# Altium schematic symbol library AltiumLibrary.SchLib: 65 symbols (part 1 of 2)
Pins are listed as number, name and electrical type; pins without a type are passive.

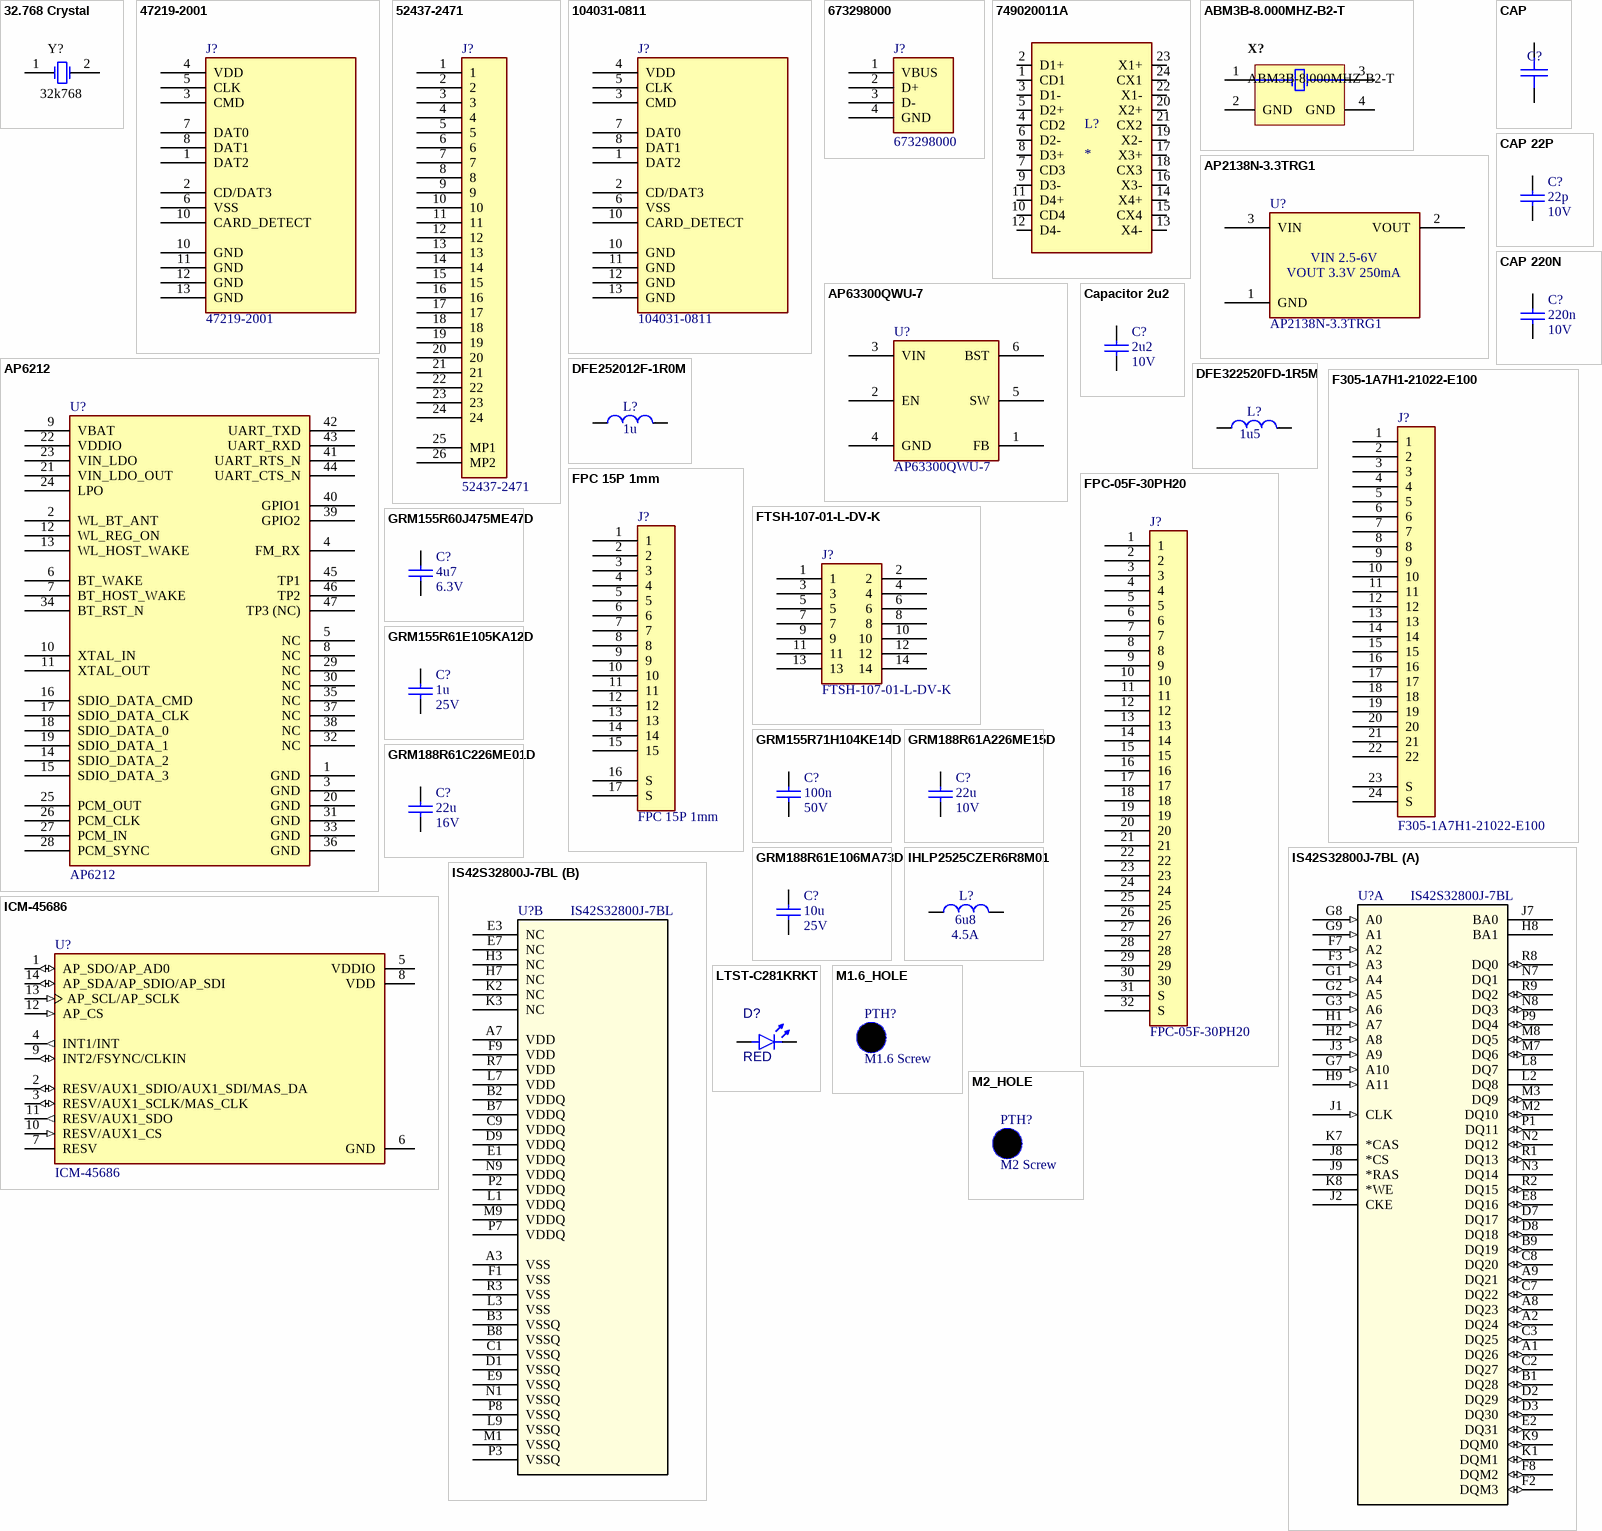
[diagram p0: symbols 32.768 Crystal to M2_HOLE]

## 32.768 Crystal
designator Y?, comment 32k768
pins: 1, 2

## 47219-2001
designator J?
Micro SD
footprint 47219-2001 (MicroSD Hinge Molex)
pins: 1 DAT2, 2 CD/DAT3, 3 CMD, 4 VDD, 5 CLK, 6 VSS, 7 DAT0, 8 DAT1, 10 CARD_DETECT, 10 GND, 11 GND, 12 GND, 13 GND

## 52437-2471
designator J?
footprint 52437-2471 (FPC Connector, 24-Leads, Right Angle, Pitch 0.5 mm, SMT)
pins: 1, 2, 3, 4, 5, 6, 7, 8, 9, 10, 11, 12, 13, 14, 15, 16, 17, 18, 19, 20, 21, 22, 23, 24, 25 MP1, 26 MP2

## 104031-0811
designator J?
Micro SD
footprint 104031-0811 (MOLEX Micro SD)
pins: 1 DAT2, 2 CD/DAT3, 3 CMD, 4 VDD, 5 CLK, 6 VSS, 7 DAT0, 8 DAT1, 10 CARD_DETECT, 10 GND, 11 GND, 12 GND, 13 GND

## 673298000
designator J?
Molex USB 2.0 Type-A Vertical Right Angle
footprint 673298000
pins: 1 VBUS, 2 D+, 3 D-, 4 GND

## 749020011A
designator L?
1000BASE-T LAN transformer, SMD, 24pin, pitch 1.27mm, -40Â°C to +85Â°C, 1.5KVrms isolation, HPLE; MF: Wurth Electronics; MP: 749020011A; SnapEDA_Link: https://www.snapeda.com/parts/749020011A/Wurth+Electronics/view-part/?ref=snap; Package: None; Value: *; Check_prices: https://www.snapeda.com/parts/749020011A/Wurth+Electronics/view-part/?ref=eda
footprint WE-LAN_749020011A
pins: 1 CD1, 2 D1+, 3 D1-, 4 CD2, 5 D2+, 6 D2-, 7 CD3, 8 D3+, 9 D3-, 10 CD4, 11 D4+, 12 D4-, 13 X4-, 14 X4+, 15 CX4, 16 X3-, 17 X3+, 18 CX3, 19 X2-, 20 X2+, 21 CX2, 22 X1-, 23 X1+, 24 CX1

## ABM3B-8.000MHZ-B2-T
designator X?
Ceramic SMD Crystal, 8 MHz, +/- 20 ppm, 18 pF, -20 to 70 degC, 4-Pin SMD, RoHS, Tape and Reel; Manufacturer: Abracon; Resistance: 200Ohm; ESR: 200; Tolerance: 20ppm; Frequency: 8MHz; Load Capacitance: 18pF; Mounting Technology: SM; Case/Package: CSMD; Pins: 4; Datasheet Version: Aug-15; Datasheet URL: http://www.abracon.com/Resonators/abm3b.pdf; Manufacturer URL: http://www.abracon.com/; Package Quantity: 1000; Package Description: 4-Pin Surface Mount Device, Body 5 x 3.2 mm; Package Reference: ABM3B; Min Operating Temperature: -20°C; Max Operating Temperature: 70°C; Packaging: TapeandReel; Frequency Tolerance: 20ppm; RoHS Compliant: True
footprint ABM3B-8.000MHZ-B2-T (SMD, 4-Leads, Body 5x3.2mm)
pins: 1 X1, 2 GND (power), 3 X2, 4 GND (power)

## AP2138N-3.3TRG1
designator U?
LDO 3.3V 250mA; Manufacturer Part Number 1: AP2138N-3.3TRG1
footprint AP2138N-3.3TRG1 (SOT23, 3-Leads, Body 2.9x1.3mm, Pitch 0.95mm)
pins: 1 GND, 2 VOUT, 3 VIN
text: VIN 2.5-6V; VOUT 3.3V 250mA

## AP6212
designator U?
WiFi
pins: 1 GND, 2 WL_BT_ANT, 3 GND, 4 FM_RX, 5 NC, 6 BT_WAKE, 7 BT_HOST_WAKE, 8 NC, 9 VBAT, 10 XTAL_IN, 11 XTAL_OUT, 12 WL_REG_ON, 13 WL_HOST_WAKE, 14 SDIO_DATA_2, 15 SDIO_DATA_3, 16 SDIO_DATA_CMD, 17 SDIO_DATA_CLK, 18 SDIO_DATA_0, 19 SDIO_DATA_1, 20 GND, 21 VIN_LDO_OUT, 22 VDDIO, 23 VIN_LDO, 24 LPO, 25 PCM_OUT, 26 PCM_CLK, 27 PCM_IN, 28 PCM_SYNC, 29 NC, 30 NC, 31 GND, 32 NC, 33 GND, 34 BT_RST_N, 35 NC, 36 GND, 37 NC, 38 NC, 39 GPIO2, 40 GPIO1, 41 UART_RTS_N, 42 UART_TXD, 43 UART_RXD, 44 UART_CTS_N, 45 TP1, 46 TP2, 47 TP3 (NC)

## AP63300QWU-7
designator U?
BUCK 3A; Manufacturer Part Number 1: AP63300QWU-7
footprint AP63300QWU-7
pins: 1 FB, 2 EN, 3 VIN, 4 GND, 5 SW, 6 BST

## CAP
designator C?  (value not drawn)
pins: 1, 2

## CAP 22P
designator C?  value 22p  Voltage: 10V
CAP 22P 6.3V X5R 0402; Manufacturer Part Number 1: GRM155R60J475ME47D; Size: 0402; Dielectric: X5R
footprint GRM155R60J475ME47D (Chip Capacitor, Body 1.0x0.5mm, Height 0.6mm, IPC High Density)
pins: 1, 2

## CAP 220N
designator C?  value 220n  Voltage: 10V
CAP 220N 6.3V X5R 0402; Manufacturer Part Number 1: GRM155R60J475ME47D; Size: 0402; Dielectric: X5R
footprint GRM155R60J475ME47D (Chip Capacitor, Body 1.0x0.5mm, Height 0.6mm, IPC High Density)
pins: 1, 2

## Capacitor 2u2
designator C?  value 2u2  Voltage: 10V
CAP 2.2U 6.3V X5R 0402; Manufacturer Part Number 1: GRM155R60J475ME47D; Size: 0402; Dielectric: X5R
footprint GRM155R60J475ME47D (Chip Capacitor, Body 1.0x0.5mm, Height 0.6mm, IPC High Density)
pins: 1, 2

## DFE252012F-1R0M
designator L?  value 1u
IND 1U 6A 1210
pins: 1, 2

## DFE322520FD-1R5M
designator L?  value 1u5
IND 1.5U 6A 1210
footprint DFE322520FD-1R5M
pins: 1, 2

## F305-1A7H1-21022-E100
designator J?
FPC
footprint F305-1A7H1-21022-E100 (Amphenol FPC 22P 0.5mm)
pins: 1, 2, 3, 4, 5, 6, 7, 8, 9, 10, 11, 12, 13, 14, 15, 16, 17, 18, 19, 20, 21, 22, 23 S, 24 S

## FPC 15P 1mm
designator J?
pins: 1, 2, 3, 4, 5, 6, 7, 8, 9, 10, 11, 12, 13, 14, 15, 16 S, 17 S

## FPC-05F-30PH20
designator J?
pins: 1, 2, 3, 4, 5, 6, 7, 8, 9, 10, 11, 12, 13, 14, 15, 16, 17, 18, 19, 20, 21, 22, 23, 24, 25, 26, 27, 28, 29, 30, 31 S, 32 S

## FTSH-107-01-L-DV-K
designator J?
footprint FTSH-107-01-L-DV-K
pins: 1, 2, 3, 4, 5, 6, 7, 8, 9, 10, 11, 12, 13, 14

## GRM155R60J475ME47D
designator C?  value 4u7  Voltage: 6.3V
CAP 4.7U 6.3V X5R 0402; Manufacturer Part Number 1: GRM155R60J475ME47D; Size: 0402; Dielectric: X5R
footprint GRM155R60J475ME47D (Chip Capacitor, Body 1.0x0.5mm, Height 0.6mm, IPC High Density)
pins: 1, 2

## GRM155R61E105KA12D
designator C?  value 1u  Voltage: 25V
CAP 1U 25V X5R 0402; Manufacturer Part Number 1: GRM155R61E105KA12D; Size: 0402; Dielectric: X5R
footprint GRM155R61E105KA12D (Chip Capacitor, Body 1.0x0.5mm, Height 0.6mm, IPC High Density)
pins: 1, 2

## GRM155R71H104KE14D
designator C?  value 100n  Voltage: 50V
CAP 100N 50V X7R 0402; Manufacturer Part Number 1: GRM155R71H104KE14D; Size: 0402; Dielectric: X7R
footprint GRM155R71H104KE14D (Chip Capacitor, Body 1.0x0.5mm, Height 0.6mm, IPC High Density)
pins: 1, 2

## GRM188R61A226ME15D
designator C?  value 22u  Voltage: 10V
CAP 22U 10V X5R 0603; Manufacturer Part Number 1: GRM188R61A226ME15D; Size: 0603; Dielectric: X5R
footprint GRM188R61A226ME15D (Chip Capacitor, Body 1.6x0.8mm, Height 1.0mm, IPC High Density)
pins: 1, 2

## GRM188R61C226ME01D
designator C?  value 22u  Voltage: 16V
CAP 22U 16V X5R 0603; Manufacturer Part Number 1: GRM188R61C226ME01D; Size: 0603; Dielectric: X5R
footprint GRM188R61C226ME01D (Chip Capacitor, Body 1.6x0.8mm, Height 1.0mm, IPC High Density)
pins: 1, 2

## GRM188R61E106MA73D
designator C?  value 10u  Voltage: 25V
CAP 10U 25V X5R 0603; Size: 0603; Dielectric: X5R
pins: 1, 2

## ICM-45686
designator U?
Accelerometer, Gyroscope, 6 Axis Sensor I2C, I3C, SPI Output; Manufacturer Part Number 1: ICM-45686
footprint ICM-45686
pins: 1 AP_SDO/AP_AD0 (io), 2 RESV/AUX1_SDIO/AUX1_SDI/MAS_DA (io), 3 RESV/AUX1_SCLK/MAS_CLK (io), 4 INT1/INT (out), 5 VDDIO (power), 6 GND (power), 7 RESV, 8 VDD (power), 9 INT2/FSYNC/CLKIN (io), 10 RESV/AUX1_CS (in), 11 RESV/AUX1_SDO (out), 12 AP_CS (in), 13 AP_SCL/AP_SCLK (in), 14 AP_SDA/AP_SDIO/AP_SDI (io)

## IHLP2525CZER6R8M01
designator L?  value 6u8  Current Rating: 4.5A
IND 6.8U 4.5A 60m; Manufacturer Part Number 1: IHLP2525CZER6R8M01
footprint IHLP2525CZER6R8M01
pins: 1, 2

## IS42S32800J-7BL
designator U?
No Description Available; Manufacturer_Name: ISSI; Manufacturer_Part_Number: IS42S32800B-6B; Copyright: Copyright (C) 2026 Ultra Librarian. All rights reserved.; RefDes: RefDes; Type: Type
footprint IS42S32800J-7BL
part A pins: A1 DQ26 (io), A2 DQ24 (io), A8 DQ23 (io), A9 DQ21 (io), B1 DQ28 (io), B9 DQ19 (io), C2 DQ27 (io), C3 DQ25 (io), C7 DQ22 (io), C8 DQ20 (io), D2 DQ29 (io), D3 DQ30 (io), D7 DQ17 (io), D8 DQ18 (io), E2 DQ31 (io), E8 DQ16 (io), F2 DQM3 (io), F3 A3 (in), F7 A2 (in), F8 DQM2 (io), G1 A4 (in), G2 A5 (in), G3 A6 (in), G7 A10 (in), G8 A0 (in), G9 A1 (in), H1 A7 (in), H2 A8 (in), H8 BA1, H9 A11 (in), J1 CLK (in), J2 CKE, J3 A9 (in), J7 BA0, J8 *CS, J9 *RAS, K1 DQM1 (io), K7 *CAS, K8 *WE, K9 DQM0 (io), L2 DQ8, L8 DQ7, M2 DQ10 (io), M3 DQ9 (io), M7 DQ6 (io), M8 DQ5 (io), N2 DQ12 (io), N3 DQ14 (power), N7 DQ1 (power), N8 DQ3 (io), P1 DQ11 (io), P9 DQ4 (io), R1 DQ13 (io), R2 DQ15 (io), R8 DQ0 (io), R9 DQ2 (io)
part B pins: A3 VSS (power), A7 VDD (power), B2 VDDQ (power), B3 VSSQ (power), B7 VDDQ (power), B8 VSSQ (power), C1 VSSQ (power), C9 VDDQ (power), D1 VSSQ (power), D9 VDDQ (power), E1 VDDQ (power), E3 NC, E7 NC, E9 VSSQ (power), F1 VSS (power), F9 VDD (power), H3 NC, H7 NC, K2 NC, K3 NC, L1 VDDQ, L3 VSS, L7 VDD, L9 VSSQ, M1 VSSQ (power), M9 VDDQ (power), N1 VSSQ (power), N9 VDDQ (power), P2 VDDQ (power), P3 VSSQ (power), P7 VDDQ (power), P8 VSSQ (power), R3 VSS (power), R7 VDD (power)

## LTST-C281KRKT
designator D?, comment RED
LED RED; Manufacturer Part Number 1: LTST-C281KRKT; Size: 0402; Colour: RED
footprint LTST-C281KRKT (SMD, 2-Leads, Body 1x0.5mm)
pins: 1 K, 2 A

## M1.6_HOLE
designator PTH?, comment M1.6 Screw
footprint m1.6_hole

## M2_HOLE
designator PTH?, comment M2 Screw
footprint M2_HOLE

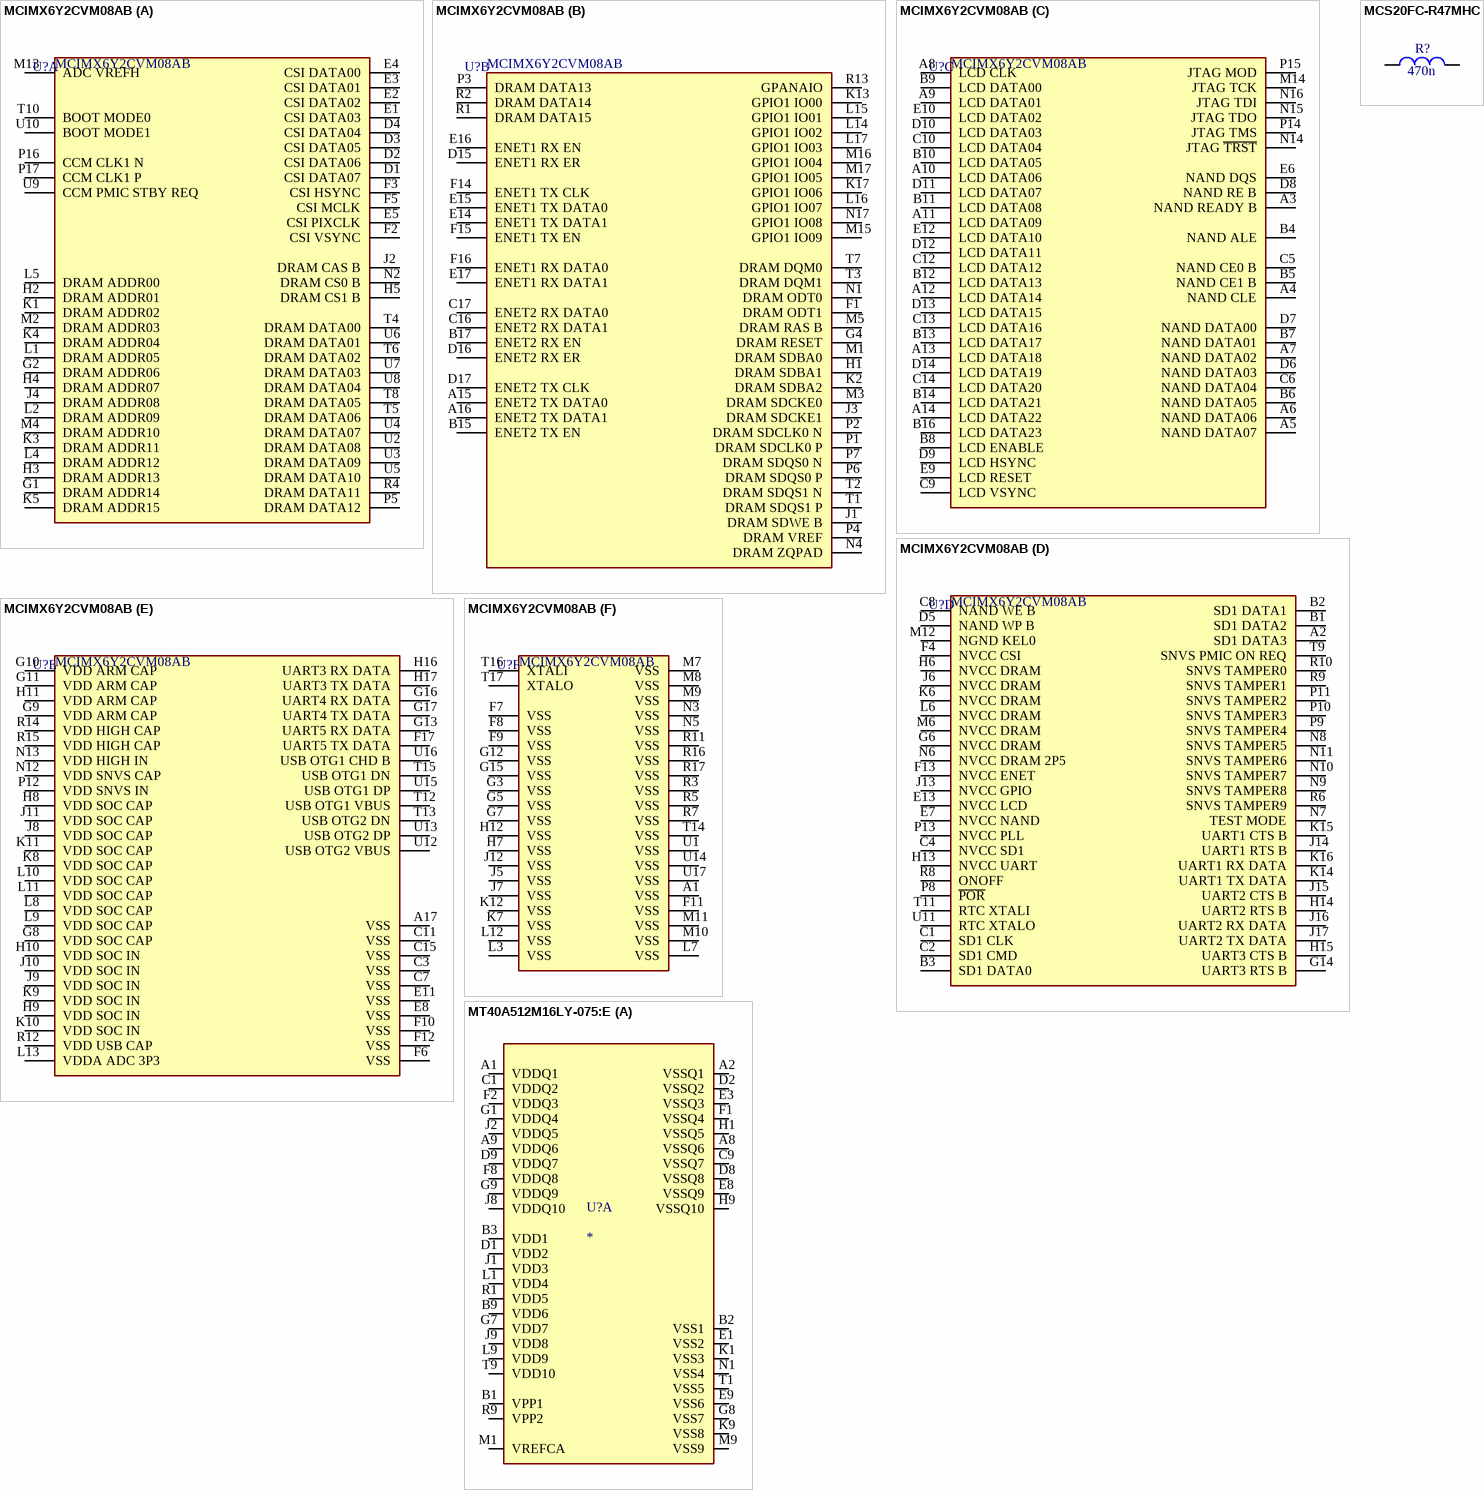
[diagram p1: symbols MCIMX6Y2CVM08AB to MT40A512M16LY-075:E]

## MCIMX6Y2CVM08AB
designator U?
I.MX6ULL ROM PERF ENHAN; Manufacturer: NXP Semiconductors; Min Supply Voltage: 0.925V; Number Of Timers/Counters: 4; Number Of Usb Channels: 2; Max Junction Temp: +105°C; Number Of Adc Channels: 10; Ram Size: 128KBytes; Max Supply Voltage: 5.5V; Number Of Uart Channels: 8; Core Architecture: ARM Cortex-A7; Standoff Height: 0.2mm; Number Of Cores: 1; Interface: I2C,SPI,UART,CAN,USB,Ethernet,Other; Data Bus Width: 32bits; Frequency: 792MHz; ComponentLink2URL: https://www.nxp.com/docs/en/data-sheet/IMX6ULLCEC.pdf; Height: 1.32mm; Octopart: https://octopart.com/mcimx6y2cvm08ab-nxp+semiconductors-86726751; Number Of Spi Channels: 4; Manufacturer Part Number: MCIMX6Y2CVM08AB; Device Class L2: Embedded Processors and Controllers; Number Of I2C Channels: 4; Temperature: -40°C to +105°C; Digikey Description: I.MX6ULL ROM PERF ENHAN; ComponentLink2Description: Datasheet; Device Class L1: Integrated Circuits (ICs); Lead Free: Yes; Footprint Url: https://www.nxp.com/docs/en/package-information/98ASA00855D.pdf; Category: IC; Mouser Description: I.mx 32-Bit Mpu, Arm Cortex-A7 Core, 800Mhz, 289Bga Rohs Compliant: Yes; Temperature Range Low: -40°C; Automotive: No; Number Of Ethernet Channels: 2; Temperature Range High: +105°C; Number Of Pwm Channels: 8; Number Of A/D Converters: 2; RoHS: TRUE; Package: SOT1534-2; Device Class L3: Microprocessors
footprint MCIMX6Y2CVM08AB
part A pins: D1 CSI DATA07, D2 CSI DATA06, D3 CSI DATA05, D4 CSI DATA04, E1 CSI DATA03, E2 CSI DATA02, E3 CSI DATA01, E4 CSI DATA00, E5 CSI PIXCLK, F2 CSI VSYNC, F3 CSI HSYNC, F5 CSI MCLK, G1 DRAM ADDR14, G2 DRAM ADDR06, H2 DRAM ADDR01, H3 DRAM ADDR13, H4 DRAM ADDR07, H5 DRAM CS1 B, J2 DRAM CAS B, J4 DRAM ADDR08, K1 DRAM ADDR02, K3 DRAM ADDR11, K4 DRAM ADDR04, K5 DRAM ADDR15, L1 DRAM ADDR05, L2 DRAM ADDR09, L4 DRAM ADDR12, L5 DRAM ADDR00, M2 DRAM ADDR03, M4 DRAM ADDR10, M13 ADC VREFH, N2 DRAM CS0 B, P5 DRAM DATA12, P16 CCM CLK1 N, P17 CCM CLK1 P, R4 DRAM DATA11, T4 DRAM DATA00, T5 DRAM DATA06, T6 DRAM DATA02, T8 DRAM DATA05, T10 BOOT MODE0, U2 DRAM DATA08, U3 DRAM DATA09, U4 DRAM DATA07, U5 DRAM DATA10, U6 DRAM DATA01, U7 DRAM DATA03, U8 DRAM DATA04, U9 CCM PMIC STBY REQ, U10 BOOT MODE1
part B pins: A15 ENET2 TX DATA0, A16 ENET2 TX DATA1, B15 ENET2 TX EN, B17 ENET2 RX EN, C16 ENET2 RX DATA1, C17 ENET2 RX DATA0, D15 ENET1 RX ER, D16 ENET2 RX ER, D17 ENET2 TX CLK, E14 ENET1 TX DATA1, E15 ENET1 TX DATA0, E16 ENET1 RX EN, E17 ENET1 RX DATA1, F1 DRAM ODT1, F14 ENET1 TX CLK, F15 ENET1 TX EN, F16 ENET1 RX DATA0, G4 DRAM RESET, H1 DRAM SDBA1, J1 DRAM SDWE B, J3 DRAM SDCKE1, K2 DRAM SDBA2, K13 GPIO1 IO00, K17 GPIO1 IO06, L14 GPIO1 IO02, L15 GPIO1 IO01, L16 GPIO1 IO07, L17 GPIO1 IO03, M1 DRAM SDBA0, M3 DRAM SDCKE0, M5 DRAM RAS B, M15 GPIO1 IO09, M16 GPIO1 IO04, M17 GPIO1 IO05, N1 DRAM ODT0, N4 DRAM ZQPAD, N17 GPIO1 IO08, P1 DRAM SDCLK0 P, P2 DRAM SDCLK0 N, P3 DRAM DATA13, P4 DRAM VREF, P6 DRAM SDQS0 P, P7 DRAM SDQS0 N, R1 DRAM DATA15, R2 DRAM DATA14, R13 GPANAIO, T1 DRAM SDQS1 P, T2 DRAM SDQS1 N, T3 DRAM DQM1, T7 DRAM DQM0
part C pins: A3 NAND READY B, A4 NAND CLE, A5 NAND DATA07, A6 NAND DATA06, A7 NAND DATA02, A8 LCD CLK, A9 LCD DATA01, A10 LCD DATA06, A11 LCD DATA09, A12 LCD DATA14, A13 LCD DATA18, A14 LCD DATA22, B4 NAND ALE, B5 NAND CE1 B, B6 NAND DATA05, B7 NAND DATA01, B8 LCD ENABLE, B9 LCD DATA00, B10 LCD DATA05, B11 LCD DATA08, B12 LCD DATA13, B13 LCD DATA17, B14 LCD DATA21, B16 LCD DATA23, C5 NAND CE0 B, C6 NAND DATA04, C9 LCD VSYNC, C10 LCD DATA04, C12 LCD DATA12, C13 LCD DATA16, C14 LCD DATA20, D6 NAND DATA03, D7 NAND DATA00, D8 NAND RE B, D9 LCD HSYNC, D10 LCD DATA03, D11 LCD DATA07, D12 LCD DATA11, D13 LCD DATA15, D14 LCD DATA19, E6 NAND DQS, E9 LCD RESET, E10 LCD DATA02, E12 LCD DATA10, M14 JTAG TCK, N14 JTAG ~{TRST}, N15 JTAG TDO, N16 JTAG TDI, P14 JTAG TMS, P15 JTAG MOD
part D pins: A2 SD1 DATA3, B1 SD1 DATA2, B2 SD1 DATA1, B3 SD1 DATA0, C1 SD1 CLK, C2 SD1 CMD, C4 NVCC SD1, C8 NAND WE B, D5 NAND WP B, E7 NVCC NAND, E13 NVCC LCD, F4 NVCC CSI, F13 NVCC ENET, G6 NVCC DRAM, G14 UART3 RTS B, H6 NVCC DRAM, H13 NVCC UART, H14 UART2 RTS B, H15 UART3 CTS B, J6 NVCC DRAM, J13 NVCC GPIO, J14 UART1 RTS B, J15 UART2 CTS B, J16 UART2 RX DATA, J17 UART2 TX DATA, K6 NVCC DRAM, K14 UART1 TX DATA, K15 UART1 CTS B, K16 UART1 RX DATA, L6 NVCC DRAM, M6 NVCC DRAM, M12 NGND KEL0, N6 NVCC DRAM 2P5, N7 TEST MODE, N8 SNVS TAMPER5, N9 SNVS TAMPER8, N10 SNVS TAMPER7, N11 SNVS TAMPER6, P8 ~{POR}, P9 SNVS TAMPER4, P10 SNVS TAMPER3, P11 SNVS TAMPER2, P13 NVCC PLL, R6 SNVS TAMPER9, R8 ONOFF, R9 SNVS TAMPER1, R10 SNVS TAMPER0, T9 SNVS PMIC ON REQ, T11 RTC XTALI, U11 RTC XTALO
part E pins: A17 VSS, C3 VSS, C7 VSS, C11 VSS, C15 VSS, E8 VSS, E11 VSS, F6 VSS, F10 VSS, F12 VSS, F17 UART5 TX DATA, G8 VDD SOC CAP, G9 VDD ARM CAP, G10 VDD ARM CAP, G11 VDD ARM CAP, G13 UART5 RX DATA, G16 UART4 RX DATA, G17 UART4 TX DATA, H8 VDD SOC CAP, H9 VDD SOC IN, H10 VDD SOC IN, H11 VDD ARM CAP, H16 UART3 RX DATA, H17 UART3 TX DATA, J8 VDD SOC CAP, J9 VDD SOC IN, J10 VDD SOC IN, J11 VDD SOC CAP, K8 VDD SOC CAP, K9 VDD SOC IN, K10 VDD SOC IN, K11 VDD SOC CAP, L8 VDD SOC CAP, L9 VDD SOC CAP, L10 VDD SOC CAP, L11 VDD SOC CAP, L13 VDDA ADC 3P3, N12 VDD SNVS CAP, N13 VDD HIGH IN, P12 VDD SNVS IN, R12 VDD USB CAP, R14 VDD HIGH CAP, R15 VDD HIGH CAP, T12 USB OTG1 VBUS, T13 USB OTG2 DN, T15 USB OTG1 DN, U12 USB OTG2 VBUS, U13 USB OTG2 DP, U15 USB OTG1 DP, U16 USB OTG1 CHD B
part F pins: A1 VSS, F7 VSS, F8 VSS, F9 VSS, F11 VSS, G3 VSS, G5 VSS, G7 VSS, G12 VSS, G15 VSS, H7 VSS, H12 VSS, J5 VSS, J7 VSS, J12 VSS, K7 VSS, K12 VSS, L3 VSS, L7 VSS, L12 VSS, M7 VSS, M8 VSS, M9 VSS, M10 VSS, M11 VSS, N3 VSS, N5 VSS, R3 VSS, R5 VSS, R7 VSS, R11 VSS, R16 VSS, R17 VSS, T14 VSS, T16 XTALI, T17 XTALO, U1 VSS, U14 VSS, U17 VSS

## MCS20FC-R47MHC
designator R?  value 470n
IND 470N 4.05A 0806
pins: 1, 2

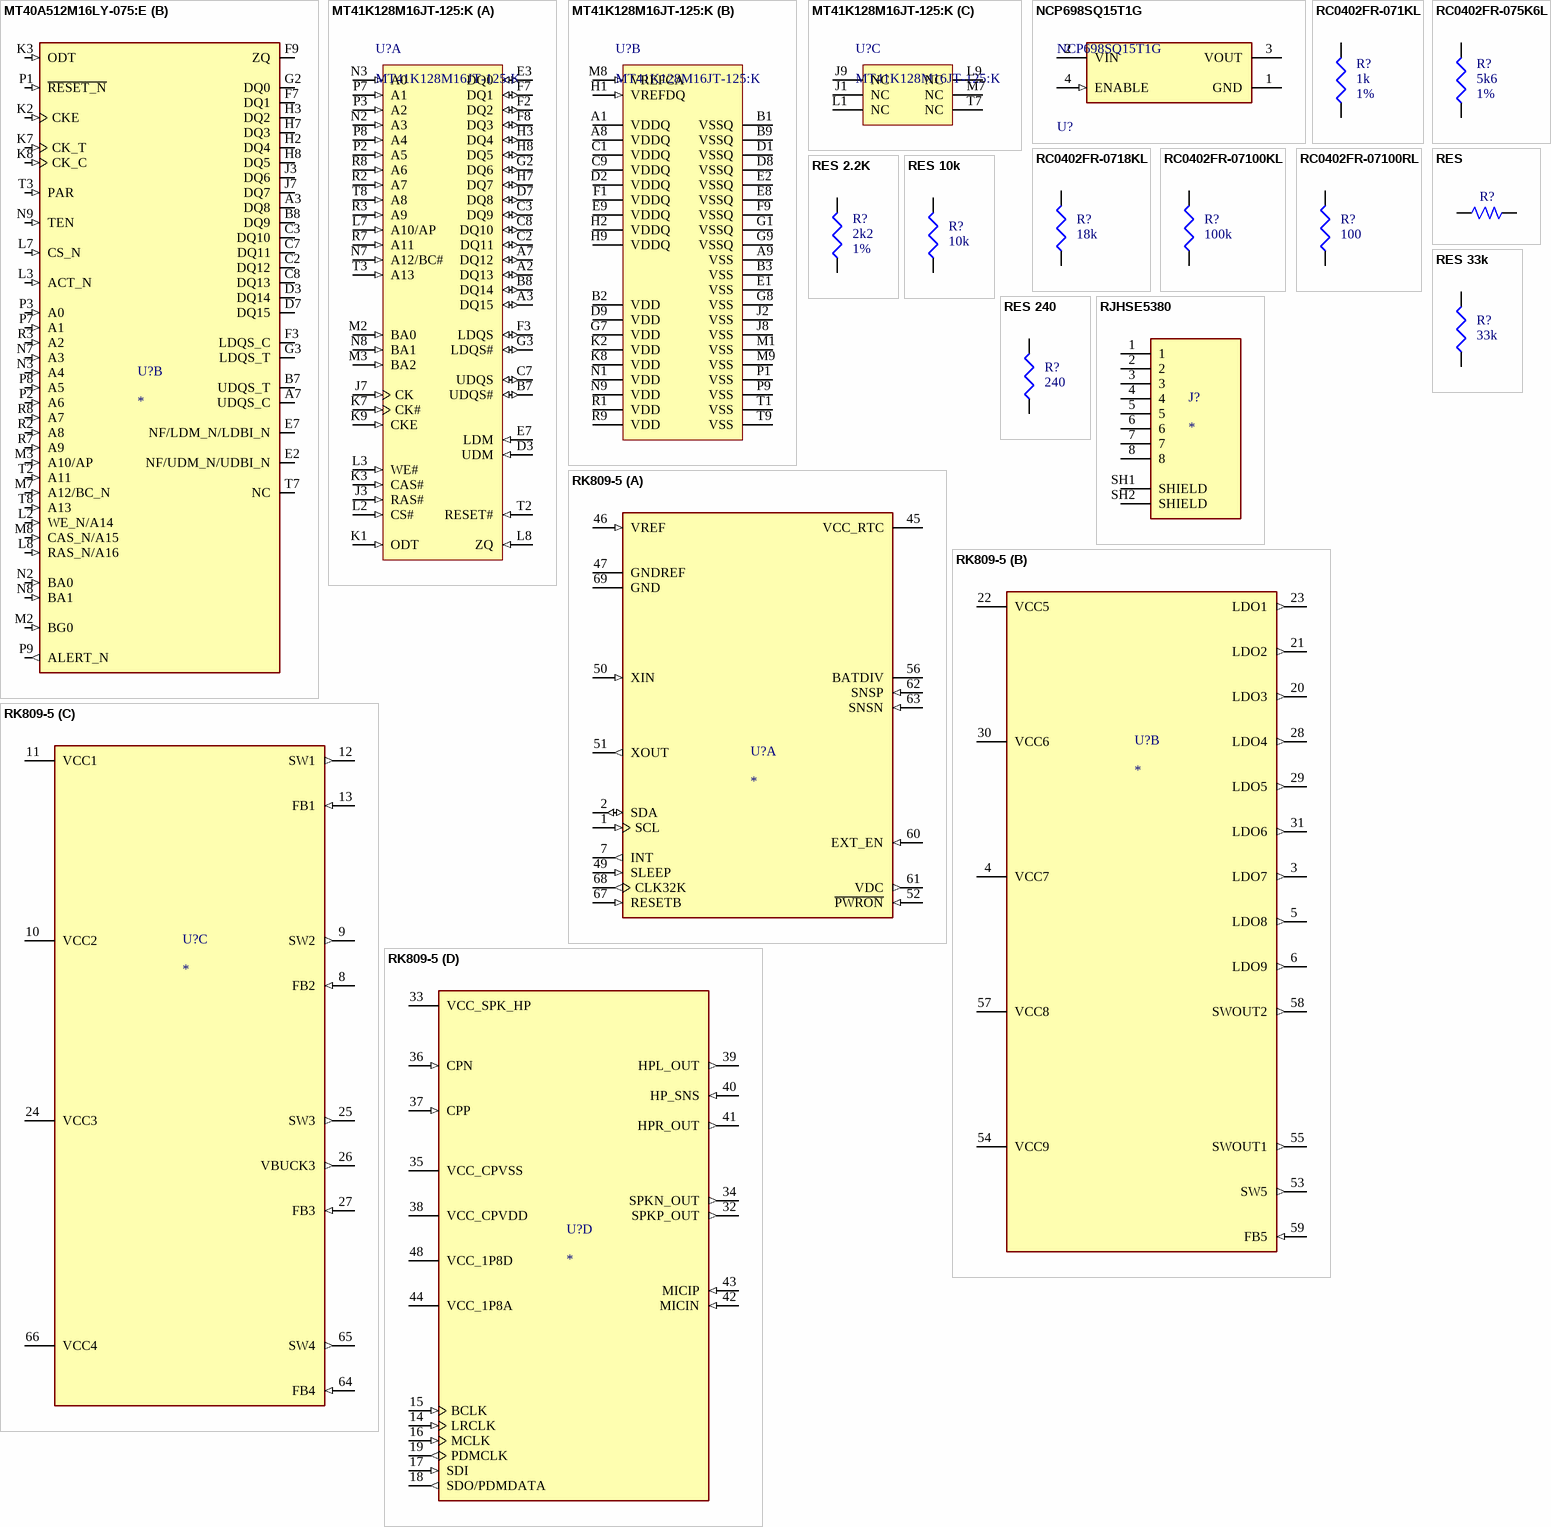
[diagram p2: symbols MT40A512M16LY-075:E to RK809-5]

## MT40A512M16LY-075:E
designator U?
SDRAM - DDR4 Memory IC 8Gb (512M x 16) Parallel 1.33 GHz 96-FBGA (7.5x13.5); MF: Micron Technology Inc.; MP: MT40A512M16LY-075:E; SnapEDA_Link: https://www.snapeda.com/parts/MT40A512M16LY-075:E/Micron/view-part/?ref=snap; Package: TFBGA-96 Micron Technology; Value: *; Check_prices: https://www.snapeda.com/parts/MT40A512M16LY-075:E/Micron/view-part/?ref=eda
footprint MT40A512M16LY-075:E
part A pins: A1 VDDQ1 (power), A2 VSSQ1 (power), A8 VSSQ6 (power), A9 VDDQ6 (power), B1 VPP1 (power), B2 VSS1 (power), B3 VDD1 (power), B9 VDD6 (power), C1 VDDQ2 (power), C9 VSSQ7 (power), D1 VDD2 (power), D2 VSSQ2 (power), D8 VSSQ8 (power), D9 VDDQ7 (power), E1 VSS2 (power), E3 VSSQ3 (power), E8 VSSQ9 (power), E9 VSS6 (power), F1 VSSQ4 (power), F2 VDDQ3 (power), F8 VDDQ8 (power), G1 VDDQ4 (power), G7 VDD7 (power), G8 VSS7 (power), G9 VDDQ9 (power), H1 VSSQ5 (power), H9 VSSQ10 (power), J1 VDD3 (power), J2 VDDQ5 (power), J8 VDDQ10 (power), J9 VDD8 (power), K1 VSS3 (power), K9 VSS8 (power), L1 VDD4 (power), L9 VDD9 (power), M1 VREFCA (power), M9 VSS9 (power), N1 VSS4 (power), R1 VDD5 (power), R9 VPP2 (power), T1 VSS5 (power), T9 VDD10 (power)
part B pins: A3 DQ8 (io), A7 UDQS_C (io), B7 UDQS_T (io), B8 DQ9 (io), C2 DQ12 (io), C3 DQ10 (io), C7 DQ11 (io), C8 DQ13 (io), D3 DQ14 (io), D7 DQ15 (io), E2 NF/UDM_N/UDBI_N (io), E7 NF/LDM_N/LDBI_N (io), F3 LDQS_C (io), F7 DQ1 (io), F9 ZQ, G2 DQ0 (io), G3 LDQS_T (io), H2 DQ4 (io), H3 DQ2 (io), H7 DQ3 (io), H8 DQ5 (io), J3 DQ6 (io), J7 DQ7 (io), K2 CKE (in), K3 ODT (in), K7 CK_T (in), K8 CK_C (in), L2 WE_N/A14 (in), L3 ACT_N (in), L7 CS_N (in), L8 RAS_N/A16 (in), M2 BG0 (in), M3 A10/AP (in), M7 A12/BC_N (in), M8 CAS_N/A15 (in), N2 BA0 (in), N3 A4 (in), N7 A3 (in), N8 BA1 (in), N9 TEN (in), P1 ~{RESET_N} (in), P2 A6 (in), P3 A0 (in), P7 A1 (in), P8 A5 (in), P9 ALERT_N (out), R2 A8 (in), R3 A2 (in), R7 A9 (in), R8 A7 (in), T2 A11 (in), T3 PAR (in), T7 NC, T8 A13 (in)

## MT41K128M16JT-125:K
designator U?
2Gb DDR3-1600 SDRAM, 128Mb x 16, 1.25 ns, 1.35 V, 0 to 95 degC, 96-Ball FBGA; Manufacturer: Micron; Density: 2147483648Bit; Organization: 128Mx16; Supply Current: 138mA; Maximum Clock Rate: 1600MHz; Operating Supply Voltage (Min): 1.283V; Address Bus: 17b; Operating Supply Voltage (Typ): 1.35V; Operating Supply Voltage (Max): 1.45V; Rad Hardened: No; Manufacturer URL: https://www.micron.com/; Type: DDR3LSDRAM; Package Description: 96-Ball Ball Grid Array, Body 14 x 8 mm, Pitch 0.8 mm; Operating Temp Range: 0Cto95C; Pin Count: 96; Package Reference: JT-96; Operating Temperature Classification: Commercial; Mounting: SurfaceMount; Datasheet URL: http://download.siliconexpert.com/pdfs/2013/11/24/21/35/34/146/mic_/manual/272gb_1_35v_ddr3l.pdf; Datasheet Version: Rev. K , 09/2013; Package Type: FBGA
footprint MT41K128M16JT-125:k (BGA, 96-Balls, Body 14x8mm, Pitch 0.8mm)
part A pins: A2 DQ13 (io) "Data input/output: Upper byte of bidirectional data bus for the x16 configuration. DQ[15:8] are referenced to VREFDQ.", A3 DQ15 (io) "Data input/output: Upper byte of bidirectional data bus for the x16 configuration. DQ[15:8] are referenced to VREFDQ.", A7 DQ12 (io) "Data input/output: Upper byte of bidirectional data bus for the x16 configuration. DQ[15:8] are referenced to VREFDQ.", B7 UDQS# (io) "Upper byte data strobe: Output with read data. Edge-aligned with read data. Input with write data. UDQS is center-aligned to write data.", B8 DQ14 (io) "Data input/output: Upper byte of bidirectional data bus for the x16 configuration. DQ[15:8] are referenced to VREFDQ.", C2 DQ11 (io) "Data input/output: Upper byte of bidirectional data bus for the x16 configuration. DQ[15:8] are referenced to VREFDQ.", C3 DQ9 (io) "Data input/output: Upper byte of bidirectional data bus for the x16 configuration. DQ[15:8] are referenced to VREFDQ.", C7 UDQS (io) "Upper byte data strobe: Output with read data. Edge-aligned with read data. Input with write data. UDQS is center-aligned to write data.", C8 DQ10 (io) "Data input/output: Upper byte of bidirectional data bus for the x16 configuration. DQ[15:8] are referenced to VREFDQ.", D3 UDM (in) "Input data mask: UDM is an upper-byte, input mask signal for write data. Upper-byte input data is masked when UDM is sampled HIGH along with the input data during a write access. Although the UDM ball is input-only, the UDM (See Datasheet)", D7 DQ8 (io) "Data input/output: Upper byte of bidirectional data bus for the x16 configuration. DQ[15:8] are referenced to VREFDQ.", E3 DQ0 (io) "Data input/output: Lower byte of bidirectional data bus for the x16 configuration. DQ[7:0] are referenced to VREFDQ.", E7 LDM (in) "Input data mask: LDM is a lower-byte, input mask signal for write data. Lower-byte input data is masked when LDM is sampled HIGH along with the input data during a write access. Although the LDM ball is input-only, the LDM (See Datasheet)", F2 DQ2 (io) "Data input/output: Lower byte of bidirectional data bus for the x16 configuration. DQ[7:0] are referenced to VREFDQ.", F3 LDQS (io) "Lower byte data strobe: Output with read data. Edge-aligned with read data. Input with write data. LDQS is center-aligned to write data.", F7 DQ1 (io) "Data input/output: Lower byte of bidirectional data bus for the x16 configuration. DQ[7:0] are referenced to VREFDQ.", F8 DQ3 (io) "Data input/output: Lower byte of bidirectional data bus for the x16 configuration. DQ[7:0] are referenced to VREFDQ.", G2 DQ6 (io) "Data input/output: Lower byte of bidirectional data bus for the x16 configuration. DQ[7:0] are referenced to VREFDQ.", G3 LDQS# (io) "Lower byte data strobe: Output with read data. Edge-aligned with read data. Input with write data. LDQS is center-aligned to write data.", H3 DQ4 (io) "Data input/output: Lower byte of bidirectional data bus for the x16 configuration. DQ[7:0] are referenced to VREFDQ.", H7 DQ7 (io) "Data input/output: Lower byte of bidirectional data bus for the x16 configuration. DQ[7:0] are referenced to VREFDQ.", H8 DQ5 (io) "Data input/output: Lower byte of bidirectional data bus for the x16 configuration. DQ[7:0] are referenced to VREFDQ.", J3 RAS# (in) "Command inputs: RAS#, CAS#, and WE# (along with CS#) define the command being entered and are referenced to VREFCA.", J7 CK (in) "Clock: CK and CK# are differential clock inputs. All address and control input signals are sampled on the crossing of the positive edge of CK and the negative edge of CK#. Output data strobe (DQS, DQS#) is referenced to the (See Datasheet)", K1 ODT (in) "On-die termination: ODT enables (registered HIGH) and disables (registered LOW) termination resistance internal to the DDR3 SDRAM. When enabled in normal operation,ODT is only applied to each of the following balls: (See Datasheet)", K3 CAS# (in) "Command inputs: RAS#, CAS#, and WE# (along with CS#) define the command being entered and are referenced to VREFCA.", K7 CK# (in) "Clock: CK and CK# are differential clock inputs. All address and control input signals are sampled on the crossing of the positive edge of CK and the negative edge of CK#. Output data strobe (LDQS,L DQS#,UDQS,UDQS#) is (See Datasheet)", K9 CKE (in) "Clock enable: CKE enables (registered HIGH) and disables (registered LOW) internal circuitry and clocks on the DRAM. The specific circuitry that is enabled/disabled is dependent upon the DDR3 SDRAM configuration and (See Datasheet)", L2 CS# (in) "Chip select: CS# enables (registered LOW) and disables (registered HIGH) the command decoder. All commands are masked when CS# is registered HIGH. CS# provides for external rank selection on systems with multiple ranks. CS# (See Datasheet)", L3 WE# (in) "Command inputs: RAS#, CAS#, and WE# (along with CS#) define the command being entered and are referenced to VREFCA.", L7 A10/AP (in) "Address inputs: Provide the row address for ACTIVATE commands, and the column address and auto precharge bit (A10) for READ/WRITE commands, to select one location out of the memory array in the respective bank. A10 sampled (See Datasheet)", L8 ZQ (in) "External reference ball for output drive calibration: This ball is tied to an external 240ohm resistor (RZQ), which is tied to VSSQ.", M2 BA0 (in) "Bank address inputs: BA[2:0] define the bank to which an ACTIVATE, READ, WRITE, or PRECHARGE command is being applied. BA[2:0] define which mode register (MR0, MR1, MR2, or MR3) is loaded during the LOAD MODE command. (See Datasheet)", M3 BA2 (in) "Bank address inputs: BA[2:0] define the bank to which an ACTIVATE, READ, WRITE, or PRECHARGE command is being applied. BA[2:0] define which mode register (MR0, MR1, MR2, or MR3) is loaded during the LOAD MODE command. (See Datasheet)", N2 A3 (in) "Address inputs: Provide the row address for ACTIVATE commands, and the column address and auto precharge bit (A10) for READ/WRITE commands, to select one location out of the memory array in the respective bank. A10 sampled (See Datasheet)", N3 A0 (in) "Address inputs: Provide the row address for ACTIVATE commands, and the column address and auto precharge bit (A10) for READ/WRITE commands, to select one location out of the memory array in the respective bank. A10 sampled (See Datasheet)", N7 A12/BC# (in) "Address inputs: Provide the row address for ACTIVATE commands, and the column address and auto precharge bit (A10) for READ/WRITE commands, to select one location out of the memory array in the respective bank. A10 sampled (See Datasheet)", N8 BA1 (in) "Bank address inputs: BA[2:0] define the bank to which an ACTIVATE, READ, WRITE, or PRECHARGE command is being applied. BA[2:0] define which mode register (MR0, MR1, MR2, or MR3) is loaded during the LOAD MODE command. (See Datasheet)", P2 A5 (in) "Address inputs: Provide the row address for ACTIVATE commands, and the column address and auto precharge bit (A10) for READ/WRITE commands, to select one location out of the memory array in the respective bank. A10 sampled (See Datasheet)", P3 A2 (in) "Address inputs: Provide the row address for ACTIVATE commands, and the column address and auto precharge bit (A10) for READ/WRITE commands, to select one location out of the memory array in the respective bank. A10 sampled (See Datasheet)", P7 A1 (in) "Address inputs: Provide the row address for ACTIVATE commands, and the column address and auto precharge bit (A10) for READ/WRITE commands, to select one location out of the memory array in the respective bank. A10 sampled (See Datasheet)", P8 A4 (in) "Address inputs: Provide the row address for ACTIVATE commands, and the column address and auto precharge bit (A10) for READ/WRITE commands, to select one location out of the memory array in the respective bank. A10 sampled (See Datasheet)", R2 A7 (in) "Address inputs: Provide the row address for ACTIVATE commands, and the column address and auto precharge bit (A10) for READ/WRITE commands, to select one location out of the memory array in the respective bank. A10 sampled (See Datasheet)", R3 A9 (in) "Address inputs: Provide the row address for ACTIVATE commands, and the column address and auto precharge bit (A10) for READ/WRITE commands, to select one location out of the memory array in the respective bank. A10 sampled (See Datasheet)", R7 A11 (in) "Address inputs: Provide the row address for ACTIVATE commands, and the column address and auto precharge bit (A10) for READ/WRITE commands, to select one location out of the memory array in the respective bank. A10 sampled (See Datasheet)", R8 A6 (in) "Address inputs: Provide the row address for ACTIVATE commands, and the column address and auto precharge bit (A10) for READ/WRITE commands, to select one location out of the memory array in the respective bank. A10 sampled (See Datasheet)", T2 RESET# (in) "Reset: RESET# is an active LOW CMOS input referenced to VSS. The RESET# input receiver is a CMOS input defined as a rail-to-rail signal with DC HIGH >= 0.8 x VDDQ and DC LOW =< 0.2 x VDDQ. RESET# assertion and deassertion (See Datasheet)", T3 A13 (in) "Address inputs: Provide the row address for ACTIVATE commands, and the column address and auto precharge bit (A10) for READ/WRITE commands, to select one location out of the memory array in the respective bank. A10 sampled (See Datasheet)", T8 A8 (in) "Address inputs: Provide the row address for ACTIVATE commands, and the column address and auto precharge bit (A10) for READ/WRITE commands, to select one location out of the memory array in the respective bank. A10 sampled (See Datasheet)"
part B pins: A1 VDDQ (power) "DQ power supply: 1.35V, 1.283-1.45V operational; compatible with 1.5V operation.", A8 VDDQ (power) "DQ power supply: 1.35V, 1.283-1.45V operational; compatible with 1.5V operation.", A9 VSS (power) "Ground.", B1 VSSQ (power) "DQ ground: Isolated on the device for improved noise immunity.", B2 VDD (power) "Power supply: 1.35V, 1.283-1.45V operational; compatible to 1.5V operation.", B3 VSS (power) "Ground.", B9 VSSQ (power) "DQ ground: Isolated on the device for improved noise immunity.", C1 VDDQ (power) "DQ power supply: 1.35V, 1.283-1.45V operational; compatible with 1.5V operation.", C9 VDDQ (power) "DQ power supply: 1.35V, 1.283-1.45V operational; compatible with 1.5V operation.", D1 VSSQ (power) "DQ ground: Isolated on the device for improved noise immunity.", D2 VDDQ (power) "DQ power supply: 1.35V, 1.283-1.45V operational; compatible with 1.5V operation.", D8 VSSQ (power) "DQ ground: Isolated on the device for improved noise immunity.", D9 VDD (power) "Power supply: 1.35V, 1.283-1.45V operational; compatible to 1.5V operation.", E1 VSS (power) "Ground.", E2 VSSQ (power) "DQ ground: Isolated on the device for improved noise immunity.", E8 VSSQ (power) "DQ ground: Isolated on the device for improved noise immunity.", E9 VDDQ (power) "DQ power supply: 1.35V, 1.283-1.45V operational; compatible with 1.5V operation.", F1 VDDQ (power) "DQ power supply: 1.35V, 1.283-1.45V operational; compatible with 1.5V operation.", F9 VSSQ (power) "DQ ground: Isolated on the device for improved noise immunity.", G1 VSSQ (power) "DQ ground: Isolated on the device for improved noise immunity.", G7 VDD (power) "Power supply: 1.35V, 1.283-1.45V operational; compatible to 1.5V operation.", G8 VSS (power) "Ground.", G9 VSSQ (power) "DQ ground: Isolated on the device for improved noise immunity.", H1 VREFDQ (in) "Reference voltage for data: VREFDQ must be maintained at all times (including self refresh) for proper device operation.", H2 VDDQ (power) "DQ power supply: 1.35V, 1.283-1.45V operational; compatible with 1.5V operation.", H9 VDDQ (power) "DQ power supply: 1.35V, 1.283-1.45V operational; compatible with 1.5V operation.", J2 VSS (power) "Ground.", J8 VSS (power) "Ground.", K2 VDD (power) "Power supply: 1.35V, 1.283-1.45V operational; compatible to 1.5V operation.", K8 VDD (power) "Power supply: 1.35V, 1.283-1.45V operational; compatible to 1.5V operation.", M1 VSS (power) "Ground.", M8 VREFCA (in) "Reference voltage for control, command, and address: VREFCA must be maintained at all times (including self refresh) for proper device operation.", M9 VSS (power) "Ground.", N1 VDD (power) "Power supply: 1.35V, 1.283-1.45V operational; compatible to 1.5V operation.", N9 VDD (power) "Power supply: 1.35V, 1.283-1.45V operational; compatible to 1.5V operation.", P1 VSS (power) "Ground.", P9 VSS (power) "Ground.", R1 VDD (power) "Power supply: 1.35V, 1.283-1.45V operational; compatible to 1.5V operation.", R9 VDD (power) "Power supply: 1.35V, 1.283-1.45V operational; compatible to 1.5V operation.", T1 VSS (power) "Ground.", T9 VSS (power) "Ground."
part C pins: J1 NC "No connect: These balls should be left unconnected (the ball has no connection to the DRAM or to other balls).", J9 NC "No connect: These balls should be left unconnected (the ball has no connection to the DRAM or to other balls).", L1 NC "No connect: These balls should be left unconnected (the ball has no connection to the DRAM or to other balls).", L9 NC "No connect: These balls should be left unconnected (the ball has no connection to the DRAM or to other balls).", M7 NC "No connect: These balls should be left unconnected (the ball has no connection to the DRAM or to other balls).", T7 NC "No connect: These balls should be left unconnected (the ball has no connection to the DRAM or to other balls)."

## NCP698SQ15T1G
designator U?
NCP698SQ15T1G Linear Voltage Regulator, CMOS LDO, Low Iq and Low IGND, 150 mA, V out : 1.5 V; Manufacturer Lifecycle Status: ACTIVE; NexarPartId: 7868311; Polarity: Positive; Max Input Voltage: 6V; Accuracy: 2%; Dropout Voltage: 870mV; Output Type: Fixed; Max Output Current: 150mA; Number of Channels: 1; Input Bias Current: 2.5µA; Min Output Voltage: 1.5V; Lifecycle Status: Production; Max Operating Temperature: 85°C; Length: 2.2mm; Packaging: Tape and Reel; Number of Regulators: 1; RoHS: Compliant; Output Voltage: 1.5V; Output Current: 150mA; Schedule B: 8542390000, 8542390000|8542390000|8542390000|8542390000|8542390000; Operating Supply Voltage: 6V; Quiescent Current: 2.5µA; Width: 1.35mm; Min Operating Temperature: -40°C; Halogen Free: Halogen Free; Number of Pins: 4; Mount: Surface Mount; Height: 1mm; Radiation Hardening: No; Number of Outputs: 1; Lead Free: Lead Free; Output Voltage Accuracy: 2%
footprint NCP698SQ15T1G
pins: 1 GND (power), 2 VIN (power), 3 VOUT (power), 4 ENABLE (in)

## RC0402FR-071KL
designator R?  value 1k  Tolerance: 1%
RES 1k 1% 62.5mW 0402; Manufacturer Part Number 1: RC0402FR-071KL; Size: 0603
footprint RC0402FR-071KL (Chip Resistor, 2-Leads, Body 1.05x0.55mm, IPC Low Density)
pins: 1, 2

## RC0402FR-075K6L
designator R?  value 5k6  Tolerance: 1%
RES 5.6k 1% 62.5mW 0402; Manufacturer Part Number 1: RC0402FR-075K6L; Size: 0603
footprint RC0402FR-075K6L (Chip Resistor, 2-Leads, Body 1.05x0.55mm, IPC Low Density)
pins: 1, 2

## RC0402FR-0718KL
designator R?  value 18k
RES 18k 1% 62.5mW 0402; Manufacturer Part Number 1: RC0402FR-0718KL; Size: 0402
footprint RC0402FR-0718KL (Chip Resistor, 2-Leads, Body 1.05x0.55mm, IPC Low Density)
pins: 1, 2

## RC0402FR-07100KL
designator R?  value 100k
RES 100k 1% 62.5mW 0402; Manufacturer Part Number 1: RC0402FR-07100KL; Size: 0603
footprint RC0402FR-07100KL (Chip Resistor, 2-Leads, Body 1.05x0.55mm, IPC Low Density)
pins: 1, 2

## RC0402FR-07100RL
designator R?  value 100
RES 100 1% 0402; Manufacturer Part Number 1: RC0402FR-07100RL; Size: 0603
footprint RC0402FR-07100RL (Chip Resistor, 2-Leads, Body 1.05x0.55mm, IPC Low Density)
pins: 1, 2

## RES
designator R?  (value not drawn)
pins: 1, 2

## RES 2.2K
designator R?  value 2k2  Tolerance: 1%
RES 2.2k 1% 62.5mW 0402; Manufacturer Part Number 1: RC0402FR-075K6L; Size: 0402
footprint RC0402FR-075K6L (Chip Resistor, 2-Leads, Body 1.05x0.55mm, IPC Low Density)
pins: 1, 2

## RES 10k
designator R?  value 10k
RES 10k 1% 62.5mW 0402; Manufacturer Part Number 1: RC0402FR-0718KL; Size: 0402
footprint RC0402FR-0718KL (Chip Resistor, 2-Leads, Body 1.05x0.55mm, IPC Low Density)
pins: 1, 2

## RES 33k
designator R?  value 33k
RES 33k 1% 62.5mW 0402; Manufacturer Part Number 1: RC0402FR-07100KL; Size: 0603
footprint RC0402FR-07100KL (Chip Resistor, 2-Leads, Body 1.05x0.55mm, IPC Low Density)
pins: 1, 2

## RES 240
designator R?  value 240
RES 240 1% 62.5mW 0402; Manufacturer Part Number 1: RC0402FR-0718KL; Size: 0402
footprint RC0402FR-0718KL (Chip Resistor, 2-Leads, Body 1.05x0.55mm, IPC Low Density)
pins: 1, 2

## RJHSE5380
designator J?
MF: Amphenol; MP: RJHSE5380; Package: None; Price: None; Value: *; Availability: Unavailable
footprint AMPHENOL_RJHSE5380
pins: 1, 2, 3, 4, 5, 6, 7, 8, SH1 SHIELD, SH2 SHIELD

## RK809-5
designator U?
Complex power-management integrated circuit (PMIC) integratedCODEC for multi-core system applications; MF: Fuzhou Rockchip Electronics Co; MP: RK809-1; SnapEDA_Link: https://www.snapeda.com/parts/RK809-1/Fuzhou+Rockchip+Electronics+Co/view-part/?ref=snap; Package: Package; Value: *; Check_prices: https://www.snapeda.com/parts/RK809-1/Fuzhou+Rockchip+Electronics+Co/view-part/?ref=eda
footprint RK809-5
part A pins: 1 SCL (in), 2 SDA (io), 7 INT (out), 45 VCC_RTC (power), 46 VREF (in), 47 GNDREF (power), 49 SLEEP (in), 50 XIN (in), 51 XOUT (out), 52 ~{PWRON} (in), 56 BATDIV (power), 60 EXT_EN (in), 61 VDC (out), 62 SNSP (in), 63 SNSN (in), 67 RESETB (in), 68 CLK32K (out), 69 GND (power)
part B pins: 3 LDO7 (out), 4 VCC7 (power), 5 LDO8 (out), 6 LDO9 (out), 20 LDO3 (out), 21 LDO2 (out), 22 VCC5 (power), 23 LDO1 (out), 28 LDO4 (out), 29 LDO5 (out), 30 VCC6 (power), 31 LDO6 (out), 53 SW5 (out), 54 VCC9 (power), 55 SWOUT1 (out), 57 VCC8 (power), 58 SWOUT2 (out), 59 FB5 (in)
part C pins: 8 FB2 (in), 9 SW2 (out), 10 VCC2 (power), 11 VCC1 (power), 12 SW1 (out), 13 FB1 (in), 24 VCC3 (power), 25 SW3 (out), 26 VBUCK3 (out), 27 FB3 (in), 64 FB4 (in), 65 SW4 (out), 66 VCC4 (power)
part D pins: 14 LRCLK (in), 15 BCLK (in), 16 MCLK (in), 17 SDI (in), 18 SDO/PDMDATA (out), 19 PDMCLK (out), 32 SPKP_OUT (out), 33 VCC_SPK_HP (power), 34 SPKN_OUT (out), 35 VCC_CPVSS (power), 36 CPN (in), 37 CPP (in), 38 VCC_CPVDD (power), 39 HPL_OUT (out), 40 HP_SNS (in), 41 HPR_OUT (out), 42 MICIN (in), 43 MICIP (in), 44 VCC_1P8A (power), 48 VCC_1P8D (power)

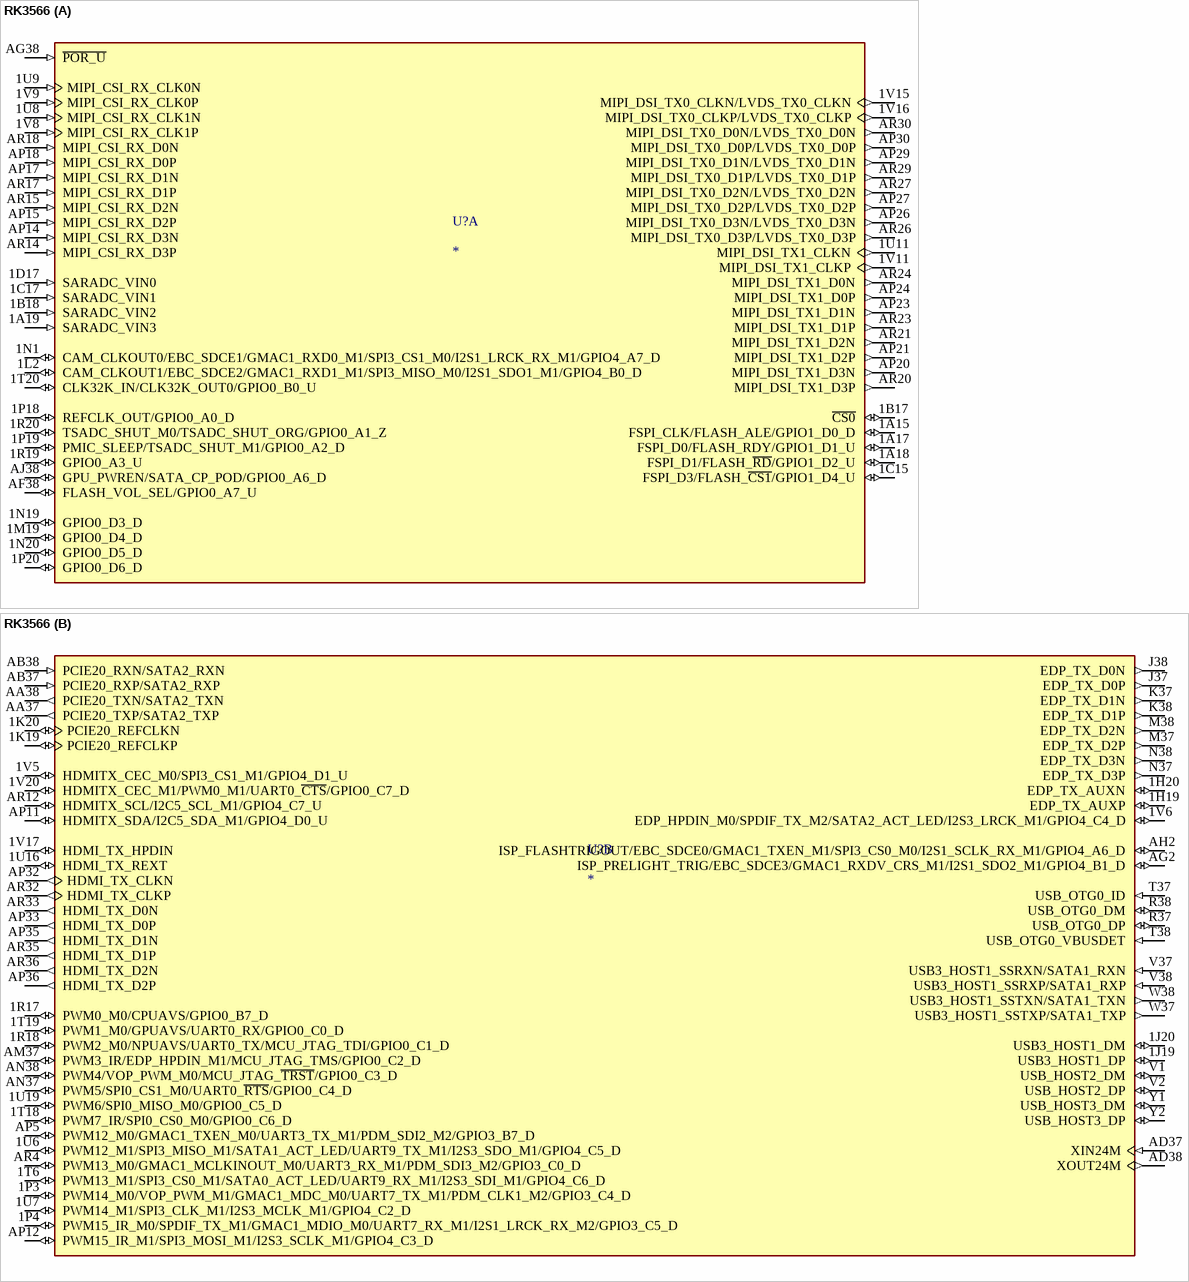
[diagram p3: symbol RK3566]

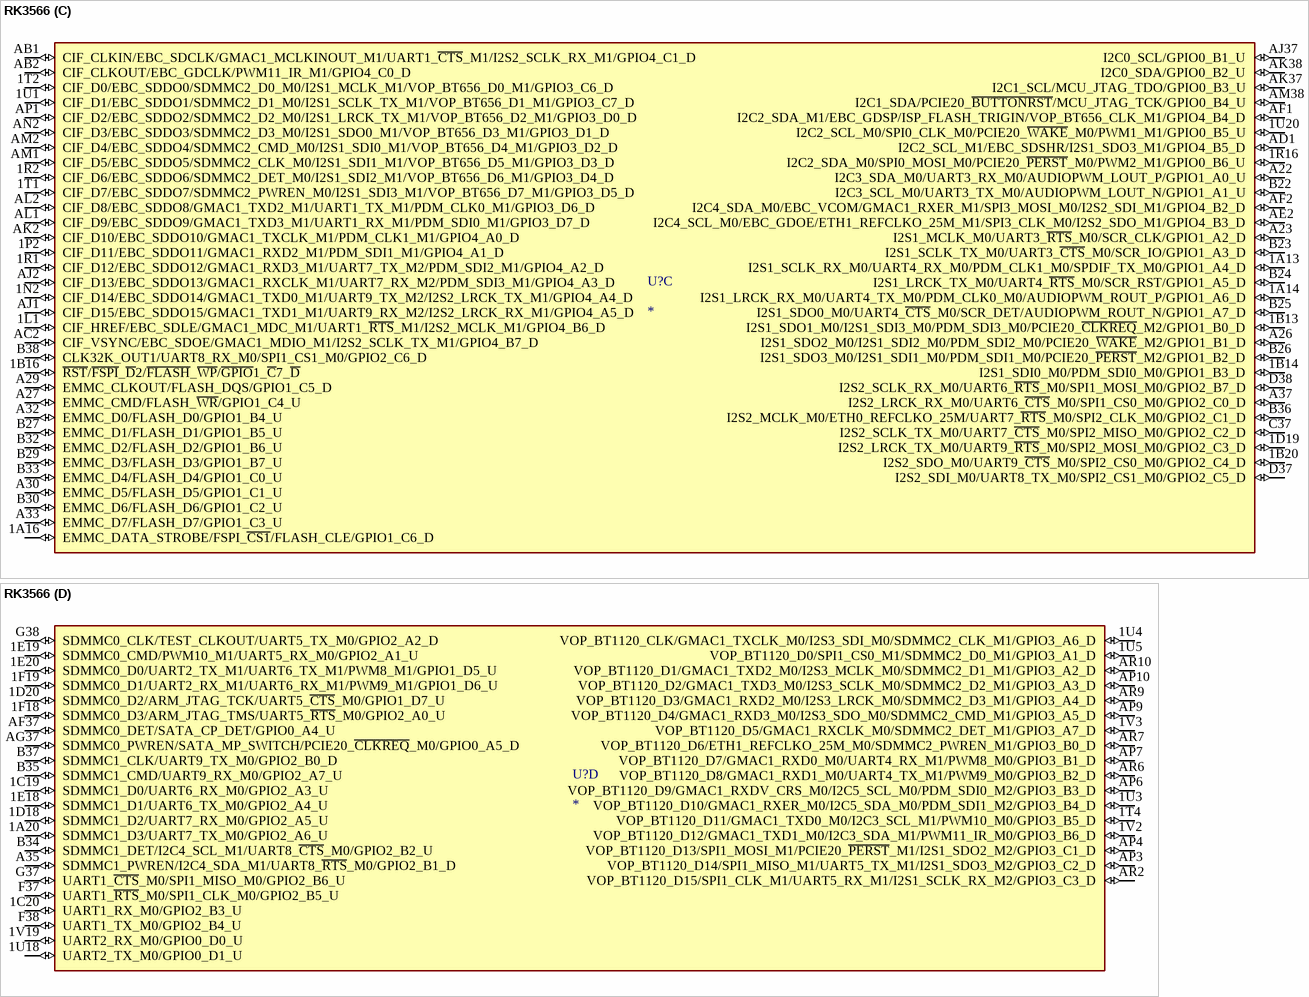
[diagram p4: symbol RK3566]

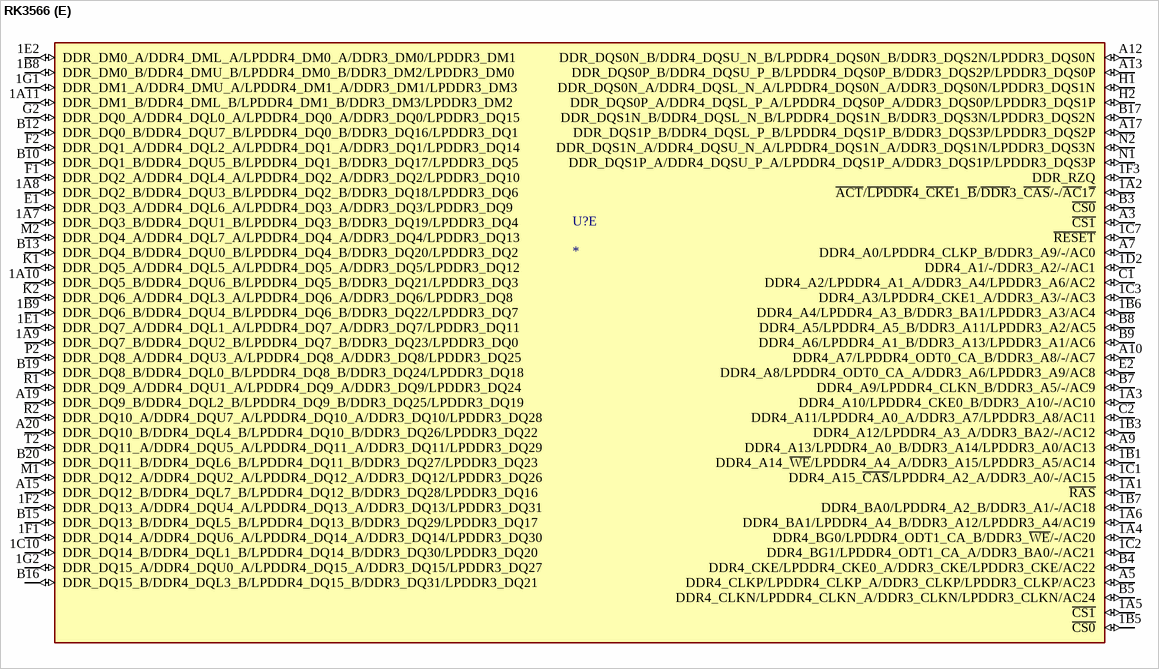
[diagram p5: symbol RK3566]

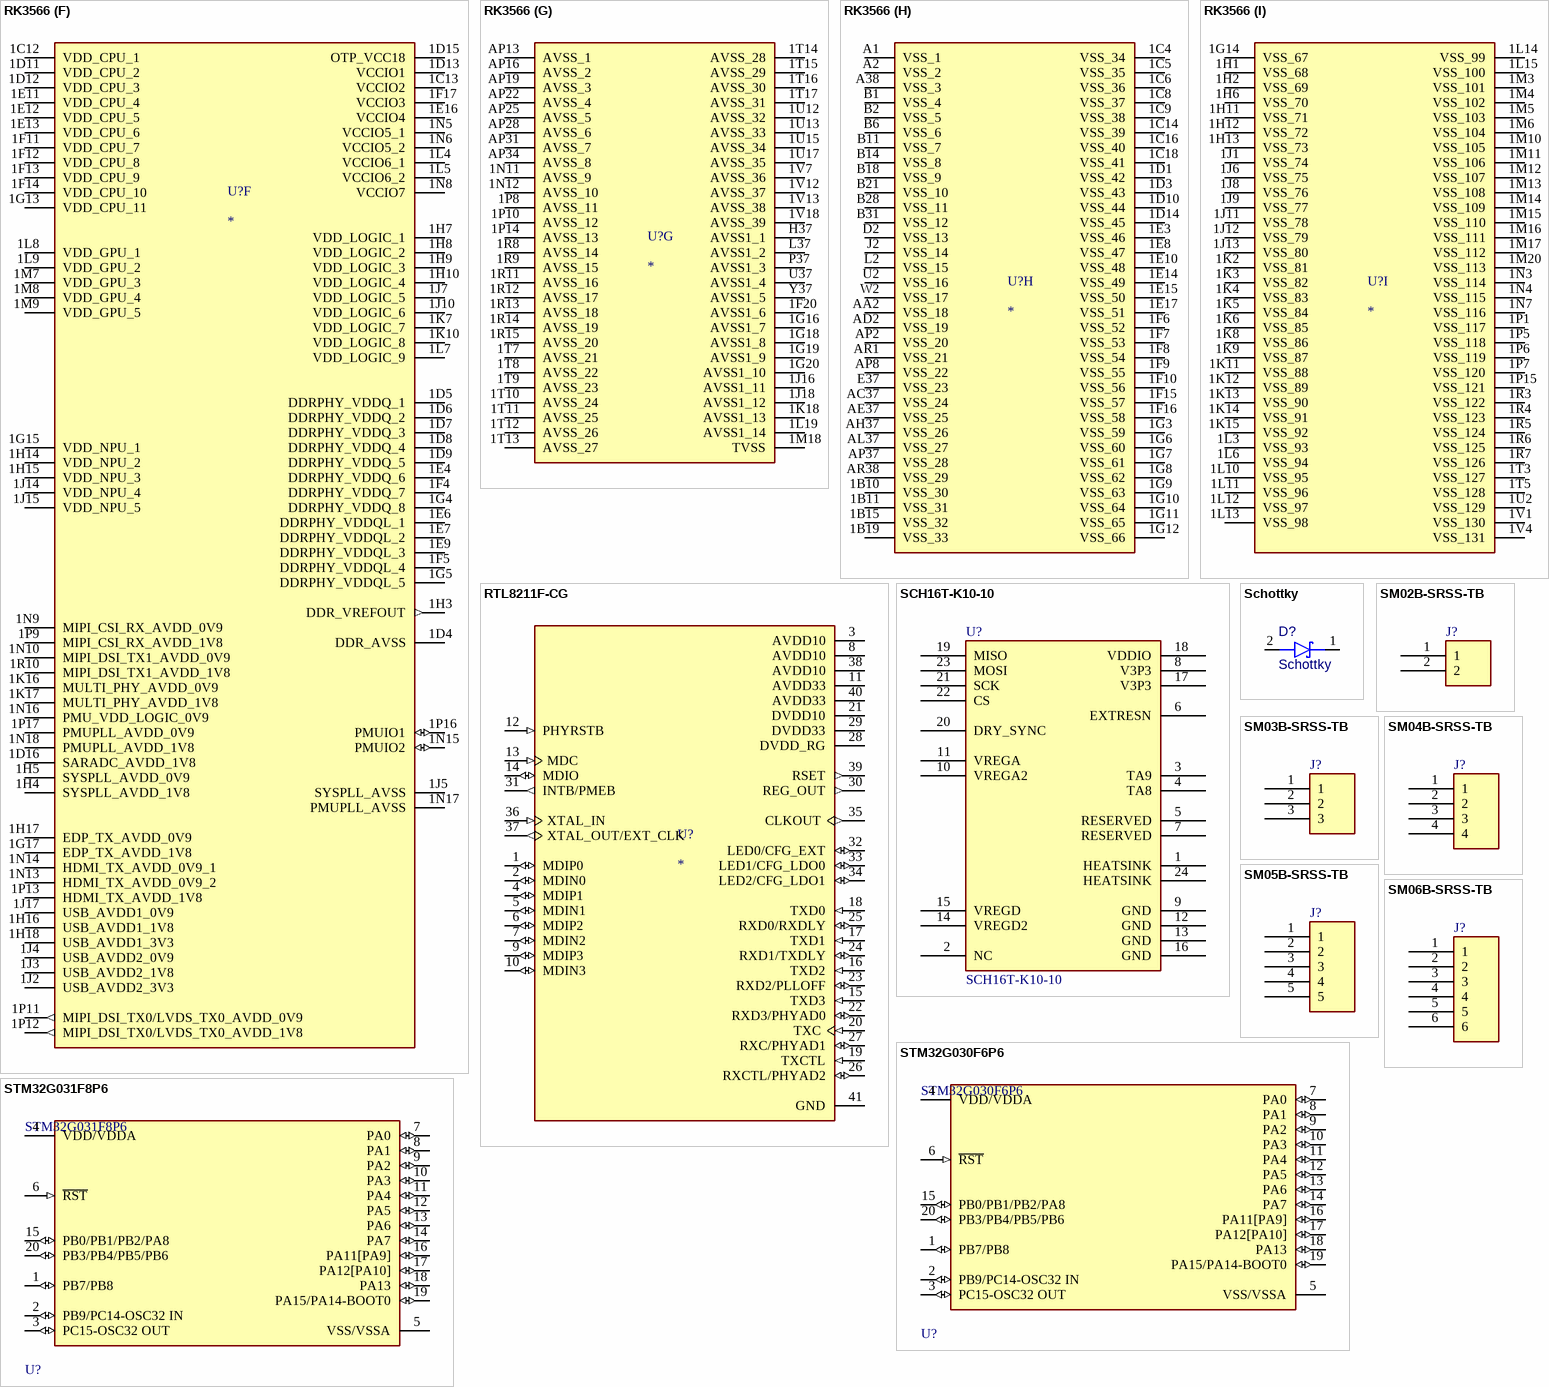
[diagram p6: symbols RK3566 to STM32G031F8P6]